# Altium schematic symbol library MPU-9255.SchLib: 1 symbol
Pins are listed as number, name and electrical type; pins without a type are passive.

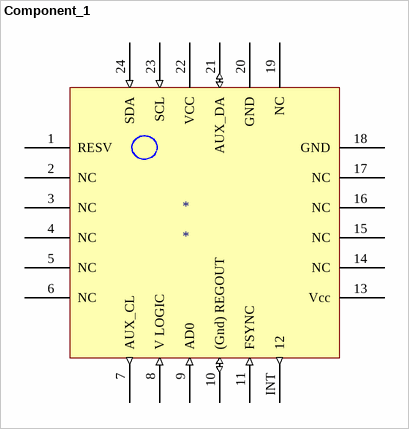
[diagram p0: symbol Component_1]

## Component_1
designator *
footprint MPU-9255
pins: 1 RESV, 2 NC, 3 NC, 4 NC, 5 NC, 6 NC, 7 AUX_CL (out), 8 V LOGIC (in), 9 AD0 (in), 10 (Gnd) REGOUT (io), 11 FSYNC (in), 13 Vcc (power), 14 NC, 15 NC (power), 16 NC, 17 NC, 18 GND (power), 19 NC, 20 GND (power), 21 AUX_DA (io), 22 VCC (power), 23 SCL (in), 24 SDA (in), INT 12 (out)